# Altium footprint library DAC7571.PcbLib: 3 footprints
Each footprint in its own frame and in the unit in brackets; x right, y up, seen from the top. Pads: shape width x height; smd on the part's side, far side on the other; paste and mask are expansions set on the pad; w line width, h text height; cw(c..) or ccw(c..) is an arc to the next point about the centre after c.
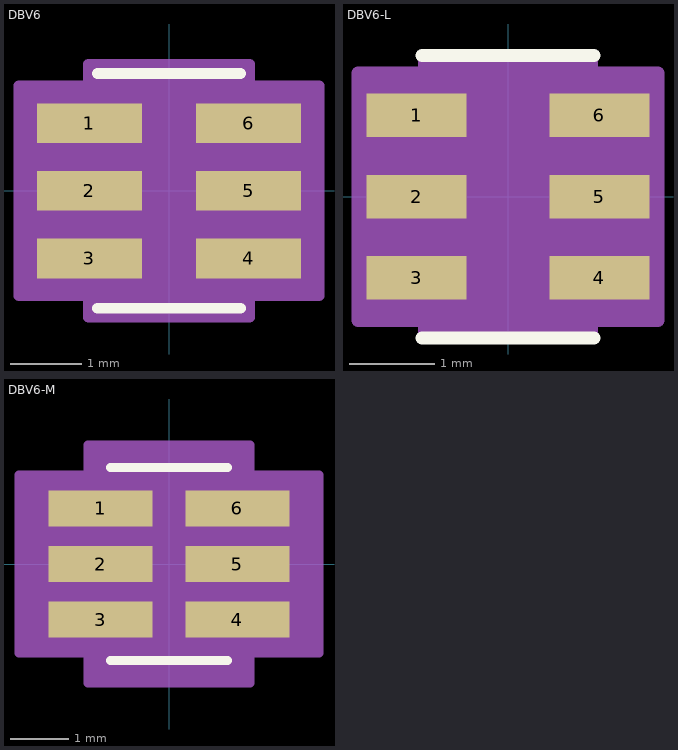
[diagram p0: the footprints below, top view; thin cyan lines are the x and y axes]

## DBV6 [mil]
pads (6):
  rect 58x22 smd: 1(-44,37.4) 2(-44,0) 3(-44,-37.4) 4(44,-37.4) 5(44,0) 6(44,37.4)
Top Overlay:
  lines w6: -39.5,-65 39.5,-65 ; -39.5,65 39.5,65
Mechanical 13:
  lines w0: -12,60 ccw(c0,60) 12,60
Mechanical 15:
  region: -44.5,-58.1 -83,-58.1 -83,58.1 -44.5,58.1 -44.5,70 44.5,70 44.5,58.1 83,58.1 83,-58.1 44.5,-58.1 44.5,-70 -44.5,-70
  lines w6: -83,-58.1 -44.5,-58.1 -44.5,-70 44.5,-70 44.5,-58.1 83,-58.1 83,58.1 44.5,58.1 44.5,70 -44.5,70 -44.5,58.1 -83,58.1 -83,-58.1

## DBV6-L [mil]
pads (6):
  rect 46x20 smd: 1(-42,37.4) 2(-42,0) 3(-42,-37.4) 4(42,-37.4) 5(42,0) 6(42,37.4)
Top Overlay:
  lines w6: -39.5,-65 39.5,-65 ; -39.5,65 39.5,65
Mechanical 13:
  lines w0: -12,60 ccw(c0,60) 12,60
Mechanical 15:
  region: -38.5,-56.9 -69,-56.9 -69,56.9 -38.5,56.9 -38.5,64 38.5,64 38.5,56.9 69,56.9 69,-56.9 38.5,-56.9 38.5,-64 -38.5,-64
  lines w6: -69,-56.9 -69,56.9 -38.5,56.9 -38.5,64 38.5,64 38.5,56.9 69,56.9 69,-56.9 38.5,-56.9 38.5,-64 -38.5,-64 -38.5,-56.9 -69,-56.9

## DBV6-M [mil]
pads (6):
  rect 70x24 smd: 1(-46,37.4) 2(-46,0) 3(-46,-37.4) 4(46,-37.4) 5(46,0) 6(46,37.4)
Top Overlay:
  lines w6: -39.5,-65 39.5,-65 ; -39.5,65 39.5,65
Mechanical 13:
  lines w0: -12,60 ccw(c0,60) 12,60
Mechanical 15:
  region: -54.5,-60.1 -101,-60.1 -101,60.1 -54.5,60.1 -54.5,80 54.5,80 54.5,60.1 101,60.1 101,-60.1 54.5,-60.1 54.5,-80 -54.5,-80
  lines w6: -101,-60.1 -54.5,-60.1 -54.5,-80 54.5,-80 54.5,-60.1 101,-60.1 101,60.1 54.5,60.1 54.5,80 -54.5,80 -54.5,60.1 -101,60.1 -101,-60.1